# Altium footprint library LegacySMD-SOTxx.PcbLib: 32 footprints (part 1 of 2)
Each footprint in its own frame and in the unit in brackets; x right, y up, seen from the top. Pads: shape width x height; smd on the part's side, far side on the other; paste and mask are expansions set on the pad; w line width, h text height; cw(c..) or ccw(c..) is an arc to the next point about the centre after c.
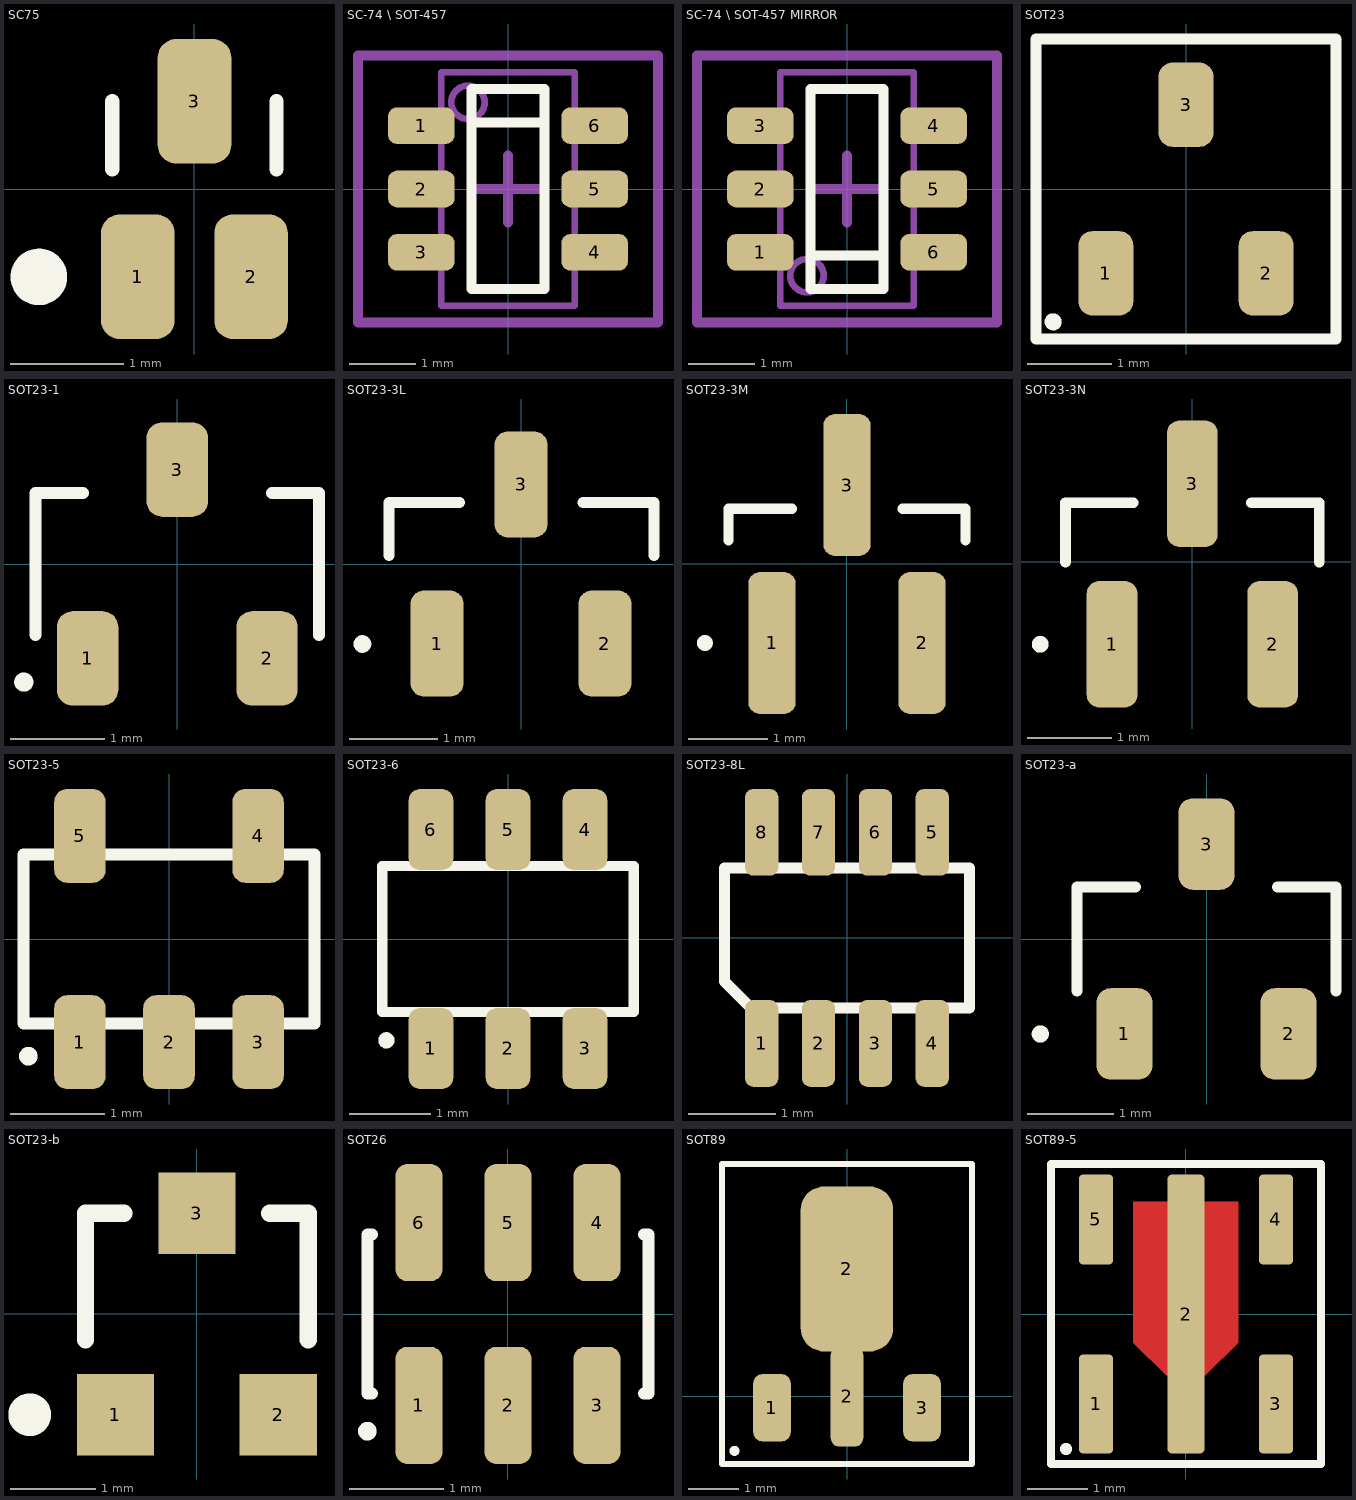
[diagram p0: the footprints below, top view; thin cyan lines are the x and y axes]

## SC75 [mm] "SOT-416/SC-90/SC-75; 3 Leads; Body 1.8 x 1.8 mm Pitch 0.5mm"
height 0.9
pads (3):
  rrect50% 0.65x1.1 smd: 1(-0.5,-0.775) 2(0.5,-0.775) 3(0,0.775)
Top Overlay:
  circle w0.25: c-1.375,-0.777 r0.125
  lines w0.127: -0.725,0.175 -0.725,0.775 ; 0.725,0.175 0.725,0.775
3D body "SC75-3.STEP": height 0.7, standoff -0.03, extent -0.8,-0.793 0.8,0.794

## SC-74 \ SOT-457 [mm] "SOP, 6-Leads, Body 3,18x1,80mm, Pitch 0,95mm, IPC Medium Density"
height 2.65
pads (6):
  rrect50% 1x0.55 smd: 1(-1.3,0.95) 2(-1.3,0) 3(-1.3,-0.95) 4(1.3,-0.95) 5(1.3,0) 6(1.3,0.95)
Top Overlay:
  lines w0.15: -0.55,1 0.55,1 ; -0.55,-1.5 0.55,-1.5 0.55,1.5 -0.55,1.5 -0.55,-1.5
Mechanical 3:
  text ".Designator / .Comment" at -0.8,1.4 h0.7
Mechanical 13:
  circle w0.1: c-0.6,1.3 r0.25
  lines w0.1: -1,-1.75 1,-1.75 1,1.75 -1,1.75 -1,-1.75
  lines w0.254: -1.5,-1 -1.1,-1 ; -1.5,0 -1.1,0 ; -1.5,0.9 -1.1,0.9 ; 1.1,-1 1.5,-1 ; 1.1,0 1.5,0 ; 1.1,0.9 1.5,0.9
Mechanical 15:
  lines w0.15: -0.5,0 0.5,0 ; 0,-0.5 0,0.5 ; -2.25,-2 2.25,-2 2.25,2 -2.25,2 -2.25,-2
3D body "User Library-SOT457.STEP": height 1, standoff 0, extent -1.4,-1.5 1.4,1.5

## SC-74 \ SOT-457 MIRROR [mm] "SOP, 6-Leads, Body 3,18x1,80mm, Pitch 0,95mm, IPC Medium Density"
height 2.65
pads (6):
  rrect50% 1x0.55 smd: 1(-1.3,-0.95) 2(-1.3,0) 3(-1.3,0.95) 4(1.3,0.95) 5(1.3,0) 6(1.3,-0.95)
Top Overlay:
  lines w0.15: -0.55,-1 0.55,-1 ; -0.55,-1.5 -0.55,1.5 0.55,1.5 0.55,-1.5 -0.55,-1.5
Mechanical 3:
  text ".Designator / .Comment" at -0.8,1.4 h0.7
Mechanical 13:
  circle w0.1: c-0.6,-1.3 r0.25
  lines w0.1: -1,-1.75 -1,1.75 1,1.75 1,-1.75 -1,-1.75
  lines w0.254: -1.5,-0.9 -1.1,-0.9 ; -1.5,0 -1.1,0 ; -1.5,1 -1.1,1 ; 1.1,-0.9 1.5,-0.9 ; 1.1,0 1.5,0 ; 1.1,1 1.5,1
Mechanical 15:
  lines w0.15: -0.5,0 0.5,0 ; 0,-0.5 0,0.5 ; -2.25,-2 -2.25,2 2.25,2 2.25,-2 -2.25,-2
3D body "User Library-SOT457.STEP": height 1, standoff 0, extent -1.4,-1.5 1.4,1.5

## SOT23 [mm] "SOT-23; 3 Leads; Body 3.0 x 2.6 mm Pitch 0.95mm"
pads (3):
  rrect50% 0.65x1 smd: 1(-0.95,-1) 2(0.95,-1) 3(0,1)
Top Overlay:
  circle w0.102: c-1.575,-1.575 r0.051
  lines w0.127: -1.778,-1.778 1.778,-1.778 1.778,1.778 -1.778,1.778 -1.778,-1.778
3D body "SOT-23 3.STEP": height 1, standoff -0.02, extent -1.46,-1.231 1.46,1.245

## SOT23-1 [mm] "SOT23, 3-Leads, Body 2.9x1.3mm, Pitch 0.95mm, Lead Span 2.5mm"
height 1.1
pads (3):
  rrect50% 0.65x1 smd: 1(-0.95,-1) 2(0.95,-1) 3(0,1)
Top Overlay:
  circle w0.102: c-1.625,-1.25 r0.051
  lines w0.127: -1.5,-0.75 -1.5,0.75 -1,0.75 ; 1,0.75 1.5,0.75 1.5,-0.75
3D body "SOT-23-3.STEP": height 1, standoff -0.02, extent -1.458,-1.254 1.462,1.222

## SOT23-3L [mm] "SOT23, 3-Leads, Body 2.9x1.3mm, Pitch 0.95mm, Lead Span 2.5mm"
height 1.1
pads (3):
  rrect50% 0.6x1.2 smd: 1(-0.95,-0.9) 2(0.95,-0.9) 3(0,0.9)
Top Overlay:
  circle w0.1: c-1.795,-0.905 r0.05
  lines w0.127: -1.495,0.095 -1.495,0.695 -0.695,0.695 ; 0.705,0.695 1.505,0.695 1.505,0.095
3D body "SOT-23-3.STEP": height 1, standoff -0.02, extent -1.455,-1.25 1.465,1.226

## SOT23-3M [mm] "SOT23, 3-Leads, Body 2.9x1.3mm, Pitch 0.95mm, Lead Span 2.5mm"
height 1.1
pads (3):
  rrect50% 0.6x1.8 smd: 1(-0.945,-1.005) 2(0.955,-1.005) 3(0.005,0.995)
Top Overlay:
  circle w0.1: c-1.795,-1.005 r0.05
  lines w0.127: -1.495,0.295 -1.495,0.695 -0.695,0.695 ; 0.705,0.695 1.505,0.695 1.505,0.295
3D body "SOT-23-3.STEP": height 1, standoff -0.02, extent -1.455,-1.25 1.465,1.226

## SOT23-3N [mm] "SOT23, 3-Leads, Body 2.9x1.3mm, Pitch 0.95mm, Lead Span 2.5mm"
height 1.1
pads (3):
  rrect50% 0.6x1.5 smd: 1(-0.95,-0.974) 2(0.95,-0.974) 3(0,0.926)
Top Overlay:
  circle w0.1: c-1.8,-0.974 r0.05
  lines w0.127: -1.5,0 -1.5,0.7 -0.7,0.7 ; 0.7,0.7 1.5,0.7 1.5,0
3D body "SOT-23-3.STEP": height 1, standoff -0.02, extent -1.448,-1.262 1.472,1.214

## SOT23-5 [mm] "SOT23, 5-Leads, Body 2.9x1.3mm, Pitch 0.95mm, Lead Span 2.5mm"
height 1.45
pads (5):
  rrect50% 0.55x1 smd: 1(-0.95,-1.1) 2(0,-1.1) 3(0.95,-1.1) 4(0.95,1.1) 5(-0.95,1.1)
Top Overlay:
  circle w0.1: c-1.5,-1.25 r0.05
  lines w0.127: -1.55,-0.9 -1.55,0.9 1.55,0.9 1.55,-0.9 -1.55,-0.9
3D body "SOT-23-5.STEP": height 1.09, standoff -0.01, extent -1.45,-1.422 1.45,1.378

## SOT23-6 [mm] "SOT23, 6-Leads, Body 2.9x1.3mm, Pitch 0.95mm, Lead Span 2.5mm"
height 1.45
pads (6):
  rrect50% 0.55x1 smd: 1(-0.95,-1.35) 2(0,-1.35) 3(0.95,-1.35) 4(0.95,1.35) 5(0,1.35) 6(-0.95,1.35)
Top Overlay:
  circle w0.1: c-1.5,-1.25 r0.05
  lines w0.127: -1.55,-0.9 -1.55,0.9 1.55,0.9 1.55,-0.9 -1.55,-0.9
3D body "SOT-23-6.STEP": height 1.09, standoff 0, extent -1.397,-1.219 1.397,1.206

## SOT23-8L [mil] "SOT23, 8-Leads, Body 2.9x1.3mm, Pitch 0.95mm, Lead Span 2.5mm"
pads (8):
  rrect50% 15x39 smd mask-1000: 1(-38.39,-47.5) 2(-12.8,-47.5) 3(12.8,-47.5) 4(38.39,-47.5) 5(38.39,47.5) 6(12.8,47.5) 7(-12.8,47.5) 8(-38.39,47.5)
Top Overlay:
  lines w5: -55.12,-19.69 -43.31,-31.5 55.12,-31.5 55.12,31.5 -55.12,31.5 -55.12,-19.69
Top Solder:
  region: -29,-68 -29,-26 -51,-26 -51,-68
  lines w20: -39,34 -39,60 ; -13,-60 -13,-34 ; -13,34 -13,60 ; 13,-60 13,-34 ; 13,34 13,60 ; 39,-60 39,-34 ; 39,34 39,60

## SOT23-a [mm] "SOT-23; 3 Leads; Body 3.0 x 2.6 mm, inc. leads (LxW max)"
height 1.1
pads (3):
  rrect50% 0.65x1.06 smd: 1(-0.95,-1.1) 2(0.95,-1.1) 3(0,1.1)
Top Overlay:
  circle w0.1: c-1.925,-1.1 r0.05
  lines w0.127: -1.5,-0.6 -1.5,0.6 -0.825,0.6 ; 0.825,0.6 1.5,0.6 1.5,-0.6
3D body "SOT-23-3.STEP": height 1, standoff -0.02, extent -1.45,-1.238 1.47,1.238

## SOT23-b [mm] "SOT-23; 3 Leads; Body 3.1 x 2.5 mm, inc. leads (LxW max)"
height 1.1
pads (3):
  rect 0.9x0.95 smd: 1(-0.95,-1.175) 2(0.95,-1.175) 3(0,1.175)
Top Overlay:
  circle w0.25: c-1.95,-1.175 r0.125
  lines w0.2: -1.3,-0.3 -1.3,1.175 -0.85,1.175 ; 0.85,1.175 1.3,1.175 1.3,-0.3
3D body "SOT23-3.STEP": height 1, standoff -0.02, extent -1.46,-1.25 1.46,1.226

## SOT26 [mm] "SOT-457/SC-74; 6 Leads; Body 3.1 x 2.6 mm, inc. leads (LxW max)"
height 1.1
pads (6):
  rrect50% 0.5x1.25 smd: 1(-0.95,-0.975) 2(0,-0.975) 3(0.95,-0.975) 4(0.95,0.975) 5(0,0.975) 6(-0.95,0.975)
Top Overlay:
  circle w0.1: c-1.5,-1.25 r0.05
  lines w0.127: -1.45,-0.85 -1.5,-0.85 -1.5,0.85 -1.45,0.85 ; 1.45,-0.85 1.5,-0.85 1.5,0.85 1.45,0.85
3D body "SC74 SOT457.STEP": height 0.94, standoff -0.09, extent -1.5,-1.385 1.5,1.386

## SOT89 [mm] "SC-62"
pads (4):
  rrect50% 0.75x1.35 smd: 1(-1.5,-0.225) 3(1.5,-0.225)
  rrect50% 1.85x3.3 smd: 2(0,2.55)
  rrect50% 0.65x2 smd: 2(0,0)
Top Overlay:
  circle w0.1: c-2.25,-1.088 r0.05
  lines w0.127: -2.5,-1.35 -2.5,4.65 2.5,4.65 2.5,-1.35 -2.5,-1.35
3D body "SOT89.STEP": height 1.5, standoff 0, extent -2.25,-0.27 2.25,3.825

## SOT89-5 [mm] "SC-62"
pads (5):
  rrect25% 0.57x1.65 smd: 1(-1.5,-1.5) 3(1.5,-1.5)
  rrect25% 0.62x4.65 smd: 2(0,0)
  rrect25% 0.57x1.5 smd: 4(1.5,1.575) 5(-1.5,1.575)
Top Layer:
  region: -0.325,-1.025 -0.875,-0.475 -0.875,1.875 0.875,1.875 0.875,-0.475 0.325,-1.025
Top Overlay:
  circle w0.1: c-2,-2.25 r0.05
  lines w0.127: -2.25,-2.5 -2.25,2.5 2.25,2.5 2.25,-2.5 -2.25,-2.5
3D body "SOT89-5.STEP": height 1.5, standoff 0, extent -2.25,-2.175 2.25,2.175